# EAGLE library part AD7367BRUZ (library nw2s)
Simultaneous Sampling SAR Analog-to-Digital Converters
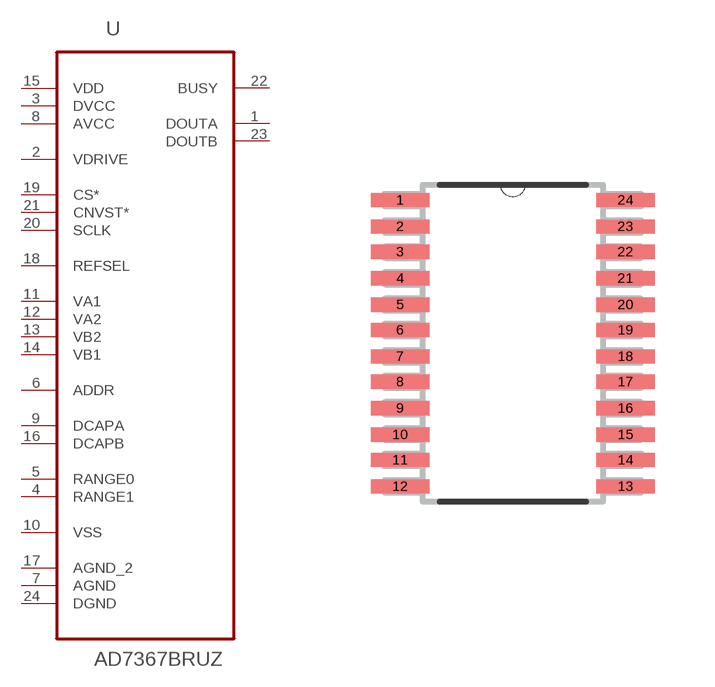
[diagram p23: symbol with the pads of SOP65P640X120-24N; footprint SOP65P640X120-24N]

Designator prefix U

## AD7367BRUZ (MPN: AD7367BRUZ; OC_FARNELL: 1438838; OC_NEWARK: 50M0817; PACKAGE: TSSOP-24; SUPPLIER: Analog Devices)  [SOP65P640X120-24N]
1  DOUTA  out
2  VDRIVE  in
3  DVCC  pwr
4  RANGE1  in
5  RANGE0  in
6  ADDR  in
7  AGND  pas
8  AVCC  pwr
9  DCAPA  pas
10  VSS  pwr
11  VA1  in
12  VA2  in
13  VB2  in
14  VB1  in
15  VDD  pwr
16  DCAPB  pas
17  AGND_2  pas
18  REFSEL  in
19  CS*  in
20  SCLK  in
21  CNVST*  in
22  BUSY  out
23  DOUTB  out
24  DGND  pas

## Footprint SOP65P640X120-24N (pad centres in mm)
smd 1.473 x 0.356: 1 -2.819,3.581; 2 -2.819,2.921; 3 -2.819,2.286; 4 -2.819,1.626; 5 -2.819,0.965; 6 -2.819,0.33; 7 -2.819,-0.33; 8 -2.819,-0.965; 9 -2.819,-1.626; 10 -2.819,-2.286; 11 -2.819,-2.921; 12 -2.819,-3.581; 13 2.819,-3.581; 14 2.819,-2.921; 15 2.819,-2.286; 16 2.819,-1.626; 17 2.819,-0.965; 18 2.819,-0.33; 19 2.819,0.33; 20 2.819,0.965; 21 2.819,1.626; 22 2.819,2.286; 23 2.819,2.921; 24 2.819,3.581